# Altium schematic symbol library Diode.SchLib: 12 symbols
Pins are listed as number, name and electrical type; pins without a type are passive.

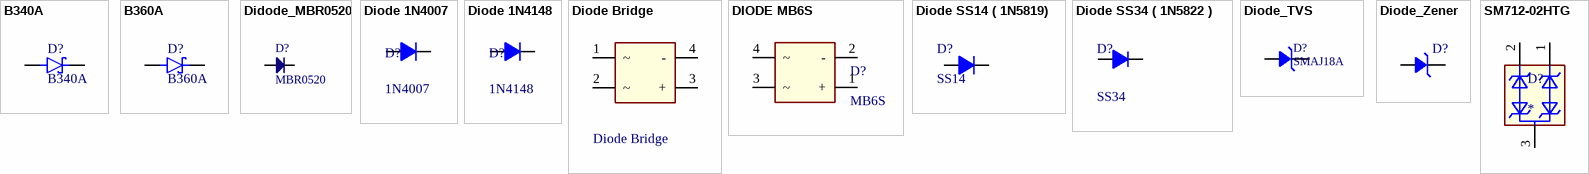
[diagram p0: symbols B340A to SM712-02HTG]

## B340A
designator D?
Diode Schottky 40V 3A Surface Mount SMA; MP: B340A-13-F; MF: Diodes Inc.; Availability: Unavailable; Price: None; Value: *; SnapEDA_Link: https://www.snapeda.com/parts/B340A-13-F/Diodes%20Inc./view-part/78704/?ref=snap; Package: DO-214 Diodes Inc.
footprint DO-214AC,SMA (Didode [1N4007,SS14,...])
pins: 1, 2

## B360A
designator D?
Diode Schottky 60V 3A Surface Mount SMA; MF: Diodes Inc.; Availability: Unavailable; Value: *
footprint DO-214AC,SMA (Didode [1N4007,SS14,...])
pins: 1 A, 2 C

## Didode_MBR0520
designator D?, comment MBR0520
SMD
footprint SOD-123
pins: 1 A, 2 K

## Diode 1N4007
designator D?, comment 1N4007
SMD; Ten_Linh_Kien: Diode 1N4007; Don_Vi: Con; Ghi Chu: *; Kieu_Chan: *; Chung_Loai: SMD
footprint DO-214AC,SMA (Didode [1N4007,SS14,...])
pins: 1 A, 2 K

## Diode 1N4148
designator D?, comment 1N4148
SMD; Ten_Linh_Kien: Diode 1N4148; Don_Vi: Con; Ghi Chu: *; Kieu_Chan: *; Chung_Loai: SMD
footprint SOD-123
footprint SOD-80
footprint DIODE 0.5A (Diode muoi, xung)
pins: 1 A, 2 K

## Diode Bridge
designator D?
Diode Bridge, SMD, DIP
footprint Diode Bridge (DB107S)
footprint Diode Bridge thru hole
pins: 1 ~, 2 ~, 3 +, 4 -

## DIODE MB6S
designator D?, comment MB6S
SMD
footprint DIODE MB6S
pins: 1 +, 2 -, 3 ~, 4 ~

## Diode SS14 ( 1N5819)
designator D?, comment SS14
SMD; Don_Vi: Con; Ten_Linh_Kien: Diode SS14 DO214 Schottky 1A 40V ( 1N5819 DO214); Chung_Loai: SMD; Ghi_Chu: *; Kieu_Chan: *
footprint DO-214AC,SMA (Didode [1N4007,SS14,...])
pins: 1 A, 2 K

## Diode SS34 ( 1N5822 )
designator D?, comment SS34
SMD; Don_Vi: Con; Chung_Loai: Dán; Ma_Hang: MH002104; Ten_Linh_Kien: Diode SS34 3A 40V SMA ( 1N5822 SS34A); Kieu_Chan: *
footprint DO-214AC,SMA (Didode [1N4007,SS14,...])
pins: 1 A, 2 K

## Diode_TVS
designator D?, comment SMAJ18A
Zener Diode; Published: 8-Jun-2000; LatestRevisionDate: 17-Jul-2002; LatestRevisionNote: Re-released for DXP Platform.; PackageReference: DIODE-0.7; Publisher: Altium Limited; PackageDescription: Diode, Thru-Hole; 2 Leads; 0.7 in Pin Spacing
footprint DO-214AC,SMA (Didode [1N4007,SS14,...])
pins: 1 A, 2 K

## Diode_Zener
designator D?  (value not drawn)
Zener Diode; Published: 8-Jun-2000; LatestRevisionDate: 17-Jul-2002; LatestRevisionNote: Re-released for DXP Platform.; PackageReference: DIODE-0.7; Publisher: Altium Limited; PackageDescription: Diode, Thru-Hole; 2 Leads; 0.7 in Pin Spacing
footprint SOD-80
pins: 1 A, 2 K

## SM712-02HTG
designator D?
TVS Diode, SM712 Series, 31V Clamp, 600W Peak Pulse, Surface Mount, SOT23-3 | Littelfuse SM712-02HTG; MF: Littelfuse Inc.; SnapEDA_Link: https://www.snapeda.com/parts/SM712-02HTG/Littelfuse/view-part/?ref=snap; Package: SOT-23 Littelfuse Inc.; Value: *; MP: SM712-02HTG; Check_prices: https://www.snapeda.com/parts/SM712-02HTG/Littelfuse/view-part/?ref=eda
footprint SOT-23 (SOT 23 _ 1-3-2)
pins: 1, 2, 3